# EAGLE library part FT232RL (library ARTMEGA)
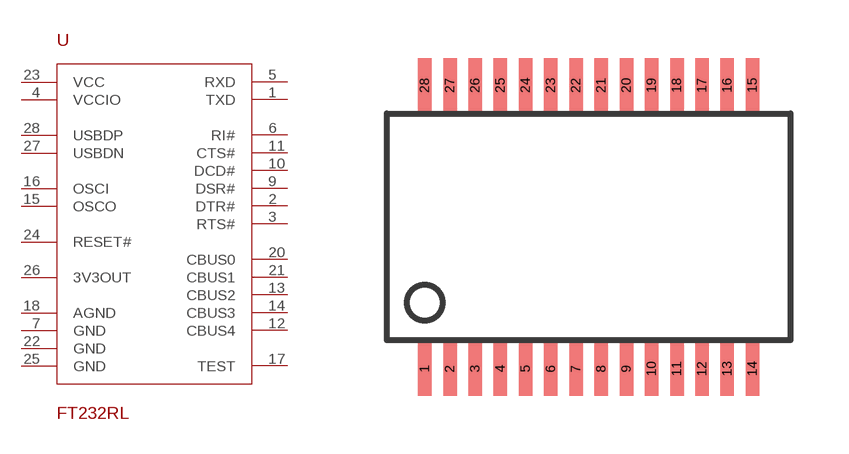
[diagram p0: symbol with the pads of SSOP28; footprint SSOP28]

Designator prefix U

## FT232RL  [SSOP28]
1  TXD
2  DTR#
3  RTS#
4  VCCIO  pwr
5  RXD
6  RI#
7  GND  pwr
8  NC  nc
9  DSR#
10  DCD#
11  CTS#
12  CBUS4
13  CBUS2
14  CBUS3
15  OSCO
16  OSCI
17  TEST
18  AGND  pwr
19  NC  nc
20  CBUS0
21  CBUS1
22  GND  pwr
23  VCC  pwr
24  RESET#
25  GND  pwr
26  3V3OUT
27  USBDN
28  USBDP

## Footprint SSOP28 (pad centres in mm)
smd 0.348 x 1.397: 1 -4.225,-3.656; 2 -3.575,-3.656; 3 -2.925,-3.656; 4 -2.275,-3.656; 5 -1.625,-3.656; 6 -0.975,-3.656; 7 -0.325,-3.656; 8 0.325,-3.656; 9 0.975,-3.656; 10 1.625,-3.656; 11 2.275,-3.656; 12 2.925,-3.656; 13 3.575,-3.656; 14 4.225,-3.656; 15 4.225,3.656; 16 3.575,3.656; 17 2.925,3.656; 18 2.275,3.656; 19 1.625,3.656; 20 0.975,3.656; 21 0.325,3.656; 22 -0.325,3.656; 23 -0.975,3.656; 24 -1.625,3.656; 25 -2.275,3.656; 26 -2.925,3.656; 27 -3.575,3.656; 28 -4.225,3.656